# Altium integrated library Module - LCD.IntLib: 1 symbol
Pins are listed as number, name and electrical type; pins without a type are passive.

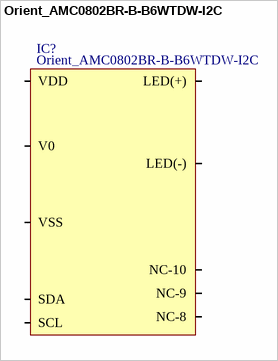
[diagram p0: symbol Orient_AMC0802BR-B-B6WTDW-I2C]

## Orient_AMC0802BR-B-B6WTDW-I2C
designator IC?  Manufacturer Part Number: Orient_AMC0802BR-B-B6WTDW-I2C
ComponentLink1Description: Datasheet; ComponentLink1URL: C:\Users\ADMIN\Desktop\Altium Projects\STM32F407 demo\Datasheets\IC - Interface; Temperature: -40°C - +80°C
footprint Orient_AMC0802BR-B-B6WTDW-I2C
pins: LED(+), LED(-), NC-8, NC-9, NC-10, SCL, SDA, V0, VDD, VSS